# Altium footprint library CN_MSTB_2_5_5-GF-5_08.PcbLib: 1 footprints
Each footprint in its own frame and in the unit in brackets; x right, y up, seen from the top. Pads: shape width x height; smd on the part's side, far side on the other; paste and mask are expansions set on the pad; w line width, h text height; cw(c..) or ccw(c..) is an arc to the next point about the centre after c.
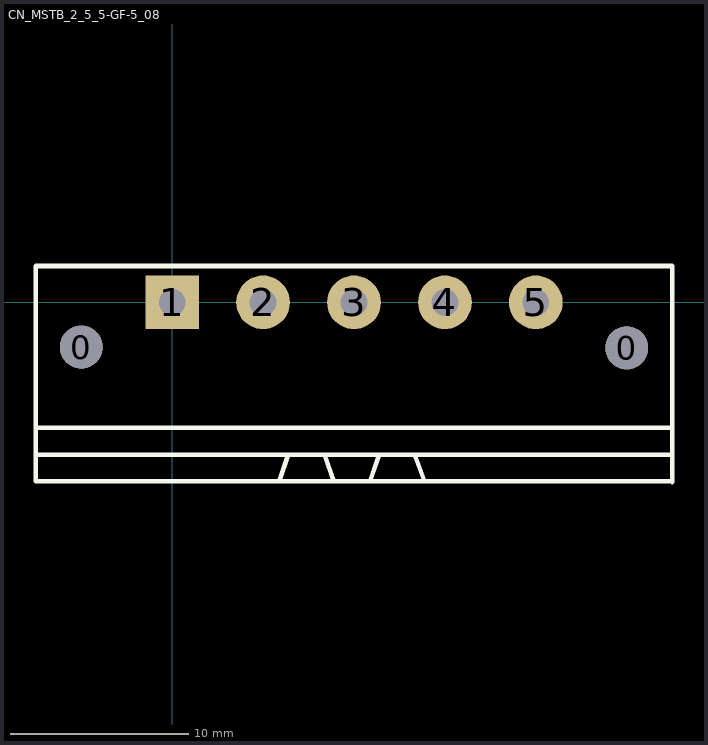
[diagram p0: the footprint, top view; thin cyan lines are the x and y axes]

## CN_MSTB_2_5_5-GF-5_08 [mm] "MSTB 2,5/ 5-GF-5,08"
pads (7):
  round 2.4 hole 2.4 unplated: 0(-5.08,-2.5) 0(25.4,-2.54)
  rect 3x3 hole 1.5: 1(0,0)
  round 3 hole 1.5: 2(5.08,0) 3(10.16,0) 4(15.24,0) 5(20.32,0)
Top Overlay:
  lines w0.254: -7.62,-8.508 27.94,-8.508 ; -7.62,-7 27.94,-7 ; 5.976,-10 6.484,-8.508 ; 8.516,-8.508 9.024,-10 ; 11.056,-10 11.564,-8.508 ; 13.596,-8.636 14.104,-10 ; 27.94,-10.04 27.94,1.99 ; 27.94,-10 -7.62,-10 -7.62,2.03 27.94,2.03
3D body: height 8.6, standoff -3.5, extent -7.62,-10 27.94,2.002